# Altium footprint library XH_connector.PcbLib: 1 footprints
Each footprint in its own frame and in the unit in brackets; x right, y up, seen from the top. Pads: shape width x height; smd on the part's side, far side on the other; paste and mask are expansions set on the pad; w line width, h text height; cw(c..) or ccw(c..) is an arc to the next point about the centre after c.
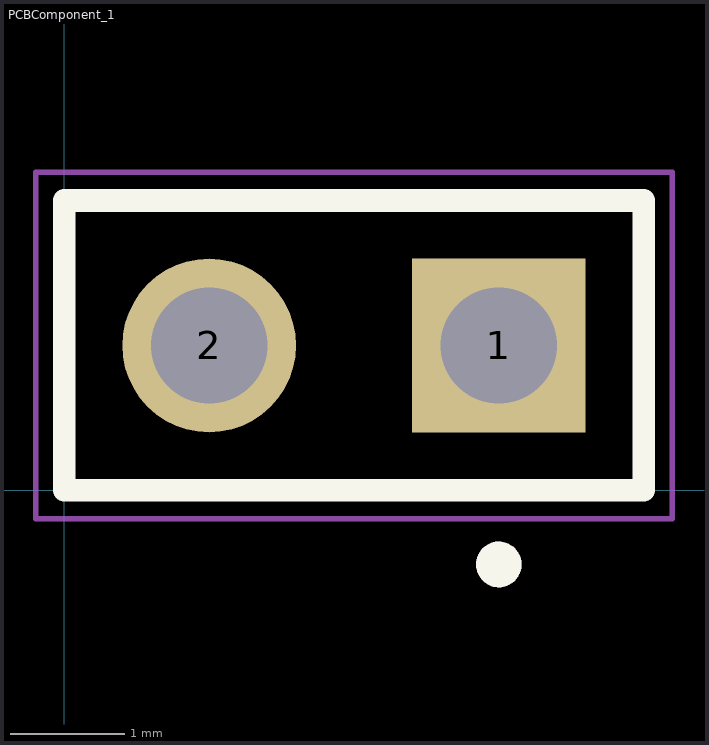
[diagram p0: the footprint, top view; thin cyan lines are the x and y axes]

## PCBComponent_1 [mil]
pads (2):
  rect 60x60 hole 40.16: 1(150,50)
  round 60 hole 40.16: 2(50,50)
Top Overlay:
  circle w7.87: c150,-25.59 r3.94
  lines w7.87: 0,0 0,100 200,100 200,0 0,0
Mechanical 13:
  circle w7.87: c150,-25.59 r3.94
  lines w3.94: 0,0 0,100 200,100 200,0 0,0
Mechanical 15:
  lines w1.97: -9.84,-9.84 -9.84,109.84 209.84,109.84 209.84,-9.84 -9.84,-9.84